# Altium schematic symbol library SCH - MCU - STM32 - ST MICROELECTRONICS STM32L083V8TX LQFP100.SchLib: 1 symbol
Pins are listed as number, name and electrical type; pins without a type are passive.

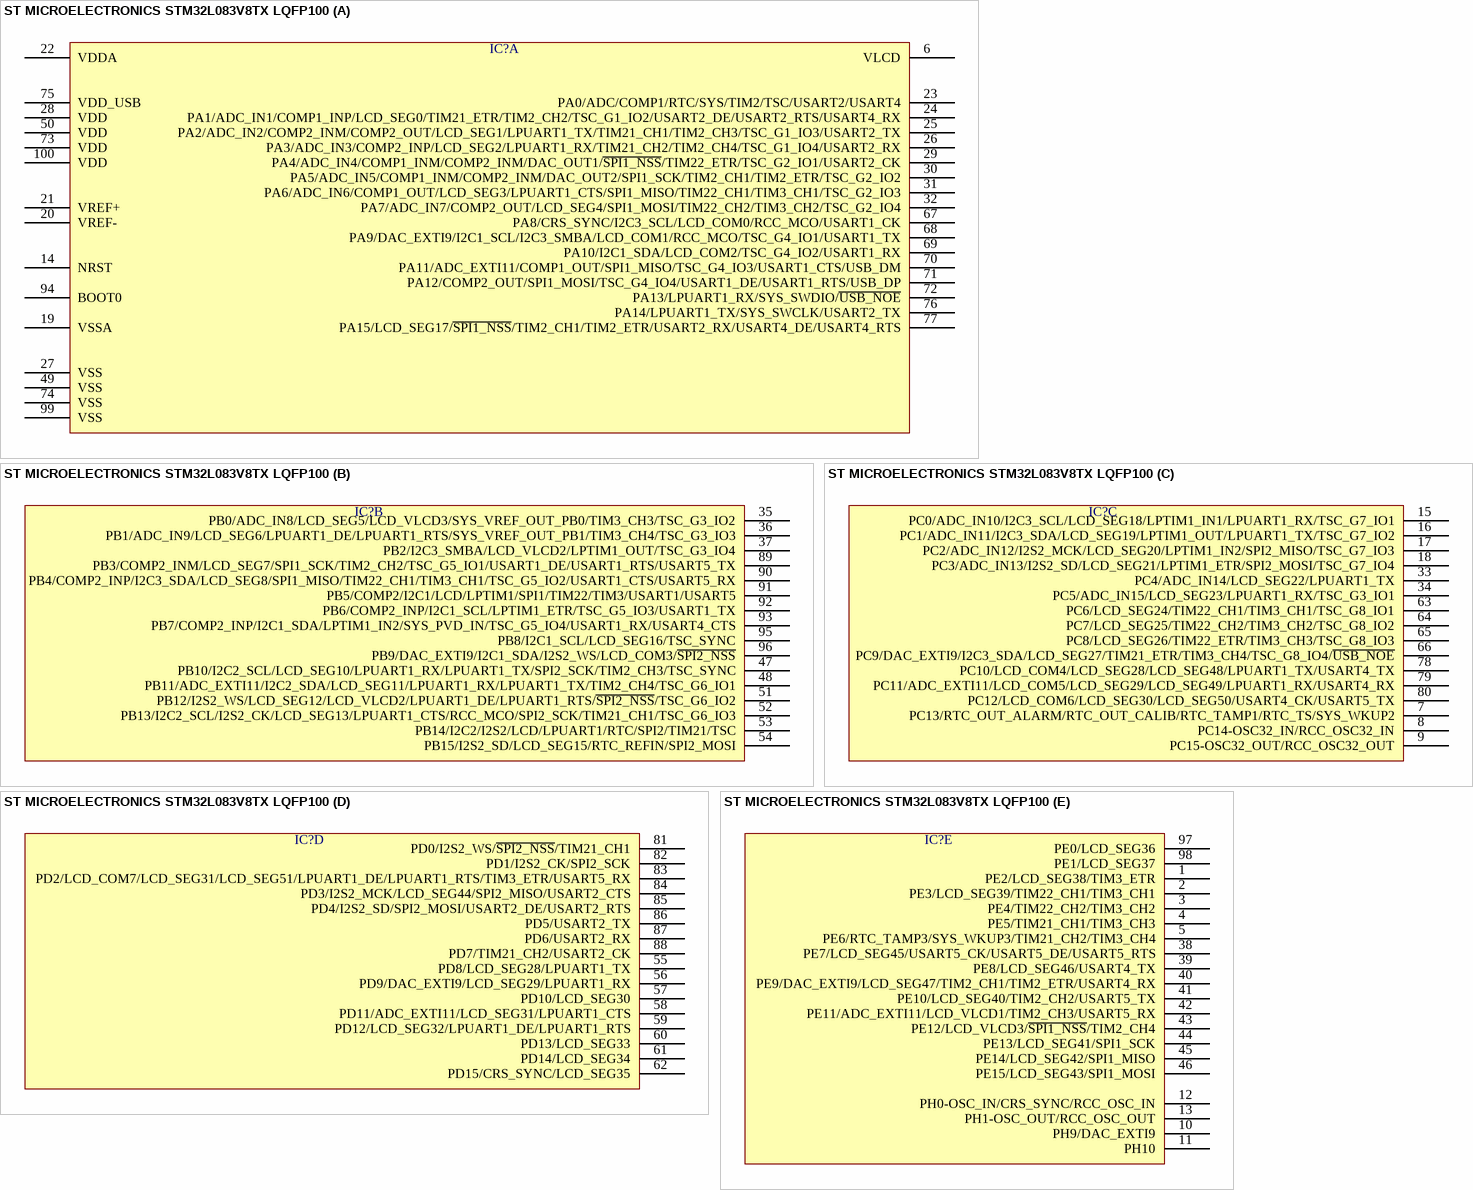
[diagram p0: symbol ST MICROELECTRONICS STM32L083V8TX LQFP100]

## ST MICROELECTRONICS STM32L083V8TX LQFP100
designator IC?  (value not drawn)
part A pins: 6 VLCD, 14 NRST, 19 VSSA, 20 VREF-, 21 VREF+, 22 VDDA, 23 PA0/ADC/COMP1/RTC/SYS/TIM2/TSC/USART2/USART4, 24 PA1/ADC_IN1/COMP1_INP/LCD_SEG0/TIM21_ETR/TIM2_CH2/TSC_G1_IO2/USART2_DE/USART2_RTS/USART4_RX, 25 PA2/ADC_IN2/COMP2_INM/COMP2_OUT/LCD_SEG1/LPUART1_TX/TIM21_CH1/TIM2_CH3/TSC_G1_IO3/USART2_TX, 26 PA3/ADC_IN3/COMP2_INP/LCD_SEG2/LPUART1_RX/TIM21_CH2/TIM2_CH4/TSC_G1_IO4/USART2_RX, 27 VSS, 28 VDD, 29 PA4/ADC_IN4/COMP1_INM/COMP2_INM/DAC_OUT1/~{SPI1_NSS}/TIM22_ETR/TSC_G2_IO1/USART2_CK, 30 PA5/ADC_IN5/COMP1_INM/COMP2_INM/DAC_OUT2/SPI1_SCK/TIM2_CH1/TIM2_ETR/TSC_G2_IO2, 31 PA6/ADC_IN6/COMP1_OUT/LCD_SEG3/LPUART1_CTS/SPI1_MISO/TIM22_CH1/TIM3_CH1/TSC_G2_IO3, 32 PA7/ADC_IN7/COMP2_OUT/LCD_SEG4/SPI1_MOSI/TIM22_CH2/TIM3_CH2/TSC_G2_IO4, 49 VSS, 50 VDD, 67 PA8/CRS_SYNC/I2C3_SCL/LCD_COM0/RCC_MCO/USART1_CK, 68 PA9/DAC_EXTI9/I2C1_SCL/I2C3_SMBA/LCD_COM1/RCC_MCO/TSC_G4_IO1/USART1_TX, 69 PA10/I2C1_SDA/LCD_COM2/TSC_G4_IO2/USART1_RX, 70 PA11/ADC_EXTI11/COMP1_OUT/SPI1_MISO/TSC_G4_IO3/USART1_CTS/USB_DM, 71 PA12/COMP2_OUT/SPI1_MOSI/TSC_G4_IO4/USART1_DE/USART1_RTS/USB_DP, 72 PA13/LPUART1_RX/SYS_SWDIO/~{USB_NOE}, 73 VDD, 74 VSS, 75 VDD_USB, 76 PA14/LPUART1_TX/SYS_SWCLK/USART2_TX, 77 PA15/LCD_SEG17/~{SPI1_NSS}/TIM2_CH1/TIM2_ETR/USART2_RX/USART4_DE/USART4_RTS, 94 BOOT0, 99 VSS, 100 VDD
part B pins: 35 PB0/ADC_IN8/LCD_SEG5/LCD_VLCD3/SYS_VREF_OUT_PB0/TIM3_CH3/TSC_G3_IO2, 36 PB1/ADC_IN9/LCD_SEG6/LPUART1_DE/LPUART1_RTS/SYS_VREF_OUT_PB1/TIM3_CH4/TSC_G3_IO3, 37 PB2/I2C3_SMBA/LCD_VLCD2/LPTIM1_OUT/TSC_G3_IO4, 47 PB10/I2C2_SCL/LCD_SEG10/LPUART1_RX/LPUART1_TX/SPI2_SCK/TIM2_CH3/TSC_SYNC, 48 PB11/ADC_EXTI11/I2C2_SDA/LCD_SEG11/LPUART1_RX/LPUART1_TX/TIM2_CH4/TSC_G6_IO1, 51 PB12/I2S2_WS/LCD_SEG12/LCD_VLCD2/LPUART1_DE/LPUART1_RTS/~{SPI2_NSS}/TSC_G6_IO2, 52 PB13/I2C2_SCL/I2S2_CK/LCD_SEG13/LPUART1_CTS/RCC_MCO/SPI2_SCK/TIM21_CH1/TSC_G6_IO3, 53 PB14/I2C2/I2S2/LCD/LPUART1/RTC/SPI2/TIM21/TSC, 54 PB15/I2S2_SD/LCD_SEG15/RTC_REFIN/SPI2_MOSI, 89 PB3/COMP2_INM/LCD_SEG7/SPI1_SCK/TIM2_CH2/TSC_G5_IO1/USART1_DE/USART1_RTS/USART5_TX, 90 PB4/COMP2_INP/I2C3_SDA/LCD_SEG8/SPI1_MISO/TIM22_CH1/TIM3_CH1/TSC_G5_IO2/USART1_CTS/USART5_RX, 91 PB5/COMP2/I2C1/LCD/LPTIM1/SPI1/TIM22/TIM3/USART1/USART5, 92 PB6/COMP2_INP/I2C1_SCL/LPTIM1_ETR/TSC_G5_IO3/USART1_TX, 93 PB7/COMP2_INP/I2C1_SDA/LPTIM1_IN2/SYS_PVD_IN/TSC_G5_IO4/USART1_RX/USART4_CTS, 95 PB8/I2C1_SCL/LCD_SEG16/TSC_SYNC, 96 PB9/DAC_EXTI9/I2C1_SDA/I2S2_WS/LCD_COM3/~{SPI2_NSS}
part C pins: 7 PC13/RTC_OUT_ALARM/RTC_OUT_CALIB/RTC_TAMP1/RTC_TS/SYS_WKUP2, 8 PC14-OSC32_IN/RCC_OSC32_IN, 9 PC15-OSC32_OUT/RCC_OSC32_OUT, 15 PC0/ADC_IN10/I2C3_SCL/LCD_SEG18/LPTIM1_IN1/LPUART1_RX/TSC_G7_IO1, 16 PC1/ADC_IN11/I2C3_SDA/LCD_SEG19/LPTIM1_OUT/LPUART1_TX/TSC_G7_IO2, 17 PC2/ADC_IN12/I2S2_MCK/LCD_SEG20/LPTIM1_IN2/SPI2_MISO/TSC_G7_IO3, 18 PC3/ADC_IN13/I2S2_SD/LCD_SEG21/LPTIM1_ETR/SPI2_MOSI/TSC_G7_IO4, 33 PC4/ADC_IN14/LCD_SEG22/LPUART1_TX, 34 PC5/ADC_IN15/LCD_SEG23/LPUART1_RX/TSC_G3_IO1, 63 PC6/LCD_SEG24/TIM22_CH1/TIM3_CH1/TSC_G8_IO1, 64 PC7/LCD_SEG25/TIM22_CH2/TIM3_CH2/TSC_G8_IO2, 65 PC8/LCD_SEG26/TIM22_ETR/TIM3_CH3/TSC_G8_IO3, 66 PC9/DAC_EXTI9/I2C3_SDA/LCD_SEG27/TIM21_ETR/TIM3_CH4/TSC_G8_IO4/~{USB_NOE}, 78 PC10/LCD_COM4/LCD_SEG28/LCD_SEG48/LPUART1_TX/USART4_TX, 79 PC11/ADC_EXTI11/LCD_COM5/LCD_SEG29/LCD_SEG49/LPUART1_RX/USART4_RX, 80 PC12/LCD_COM6/LCD_SEG30/LCD_SEG50/USART4_CK/USART5_TX
part D pins: 55 PD8/LCD_SEG28/LPUART1_TX, 56 PD9/DAC_EXTI9/LCD_SEG29/LPUART1_RX, 57 PD10/LCD_SEG30, 58 PD11/ADC_EXTI11/LCD_SEG31/LPUART1_CTS, 59 PD12/LCD_SEG32/LPUART1_DE/LPUART1_RTS, 60 PD13/LCD_SEG33, 61 PD14/LCD_SEG34, 62 PD15/CRS_SYNC/LCD_SEG35, 81 PD0/I2S2_WS/~{SPI2_NSS}/TIM21_CH1, 82 PD1/I2S2_CK/SPI2_SCK, 83 PD2/LCD_COM7/LCD_SEG31/LCD_SEG51/LPUART1_DE/LPUART1_RTS/TIM3_ETR/USART5_RX, 84 PD3/I2S2_MCK/LCD_SEG44/SPI2_MISO/USART2_CTS, 85 PD4/I2S2_SD/SPI2_MOSI/USART2_DE/USART2_RTS, 86 PD5/USART2_TX, 87 PD6/USART2_RX, 88 PD7/TIM21_CH2/USART2_CK
part E pins: 1 PE2/LCD_SEG38/TIM3_ETR, 2 PE3/LCD_SEG39/TIM22_CH1/TIM3_CH1, 3 PE4/TIM22_CH2/TIM3_CH2, 4 PE5/TIM21_CH1/TIM3_CH3, 5 PE6/RTC_TAMP3/SYS_WKUP3/TIM21_CH2/TIM3_CH4, 10 PH9/DAC_EXTI9, 11 PH10, 12 PH0-OSC_IN/CRS_SYNC/RCC_OSC_IN, 13 PH1-OSC_OUT/RCC_OSC_OUT, 38 PE7/LCD_SEG45/USART5_CK/USART5_DE/USART5_RTS, 39 PE8/LCD_SEG46/USART4_TX, 40 PE9/DAC_EXTI9/LCD_SEG47/TIM2_CH1/TIM2_ETR/USART4_RX, 41 PE10/LCD_SEG40/TIM2_CH2/USART5_TX, 42 PE11/ADC_EXTI11/LCD_VLCD1/TIM2_CH3/USART5_RX, 43 PE12/LCD_VLCD3/~{SPI1_NSS}/TIM2_CH4, 44 PE13/LCD_SEG41/SPI1_SCK, 45 PE14/LCD_SEG42/SPI1_MISO, 46 PE15/LCD_SEG43/SPI1_MOSI, 97 PE0/LCD_SEG36, 98 PE1/LCD_SEG37